# Altium footprint library Connector_Hirose.PcbLib: 136 footprints (part 2 of 9)
Each footprint in its own frame and in the unit in brackets; x right, y up, seen from the top. Pads: shape width x height; smd on the part's side, far side on the other; paste and mask are expansions set on the pad; w line width, h text height; cw(c..) or ccw(c..) is an arc to the next point about the centre after c.
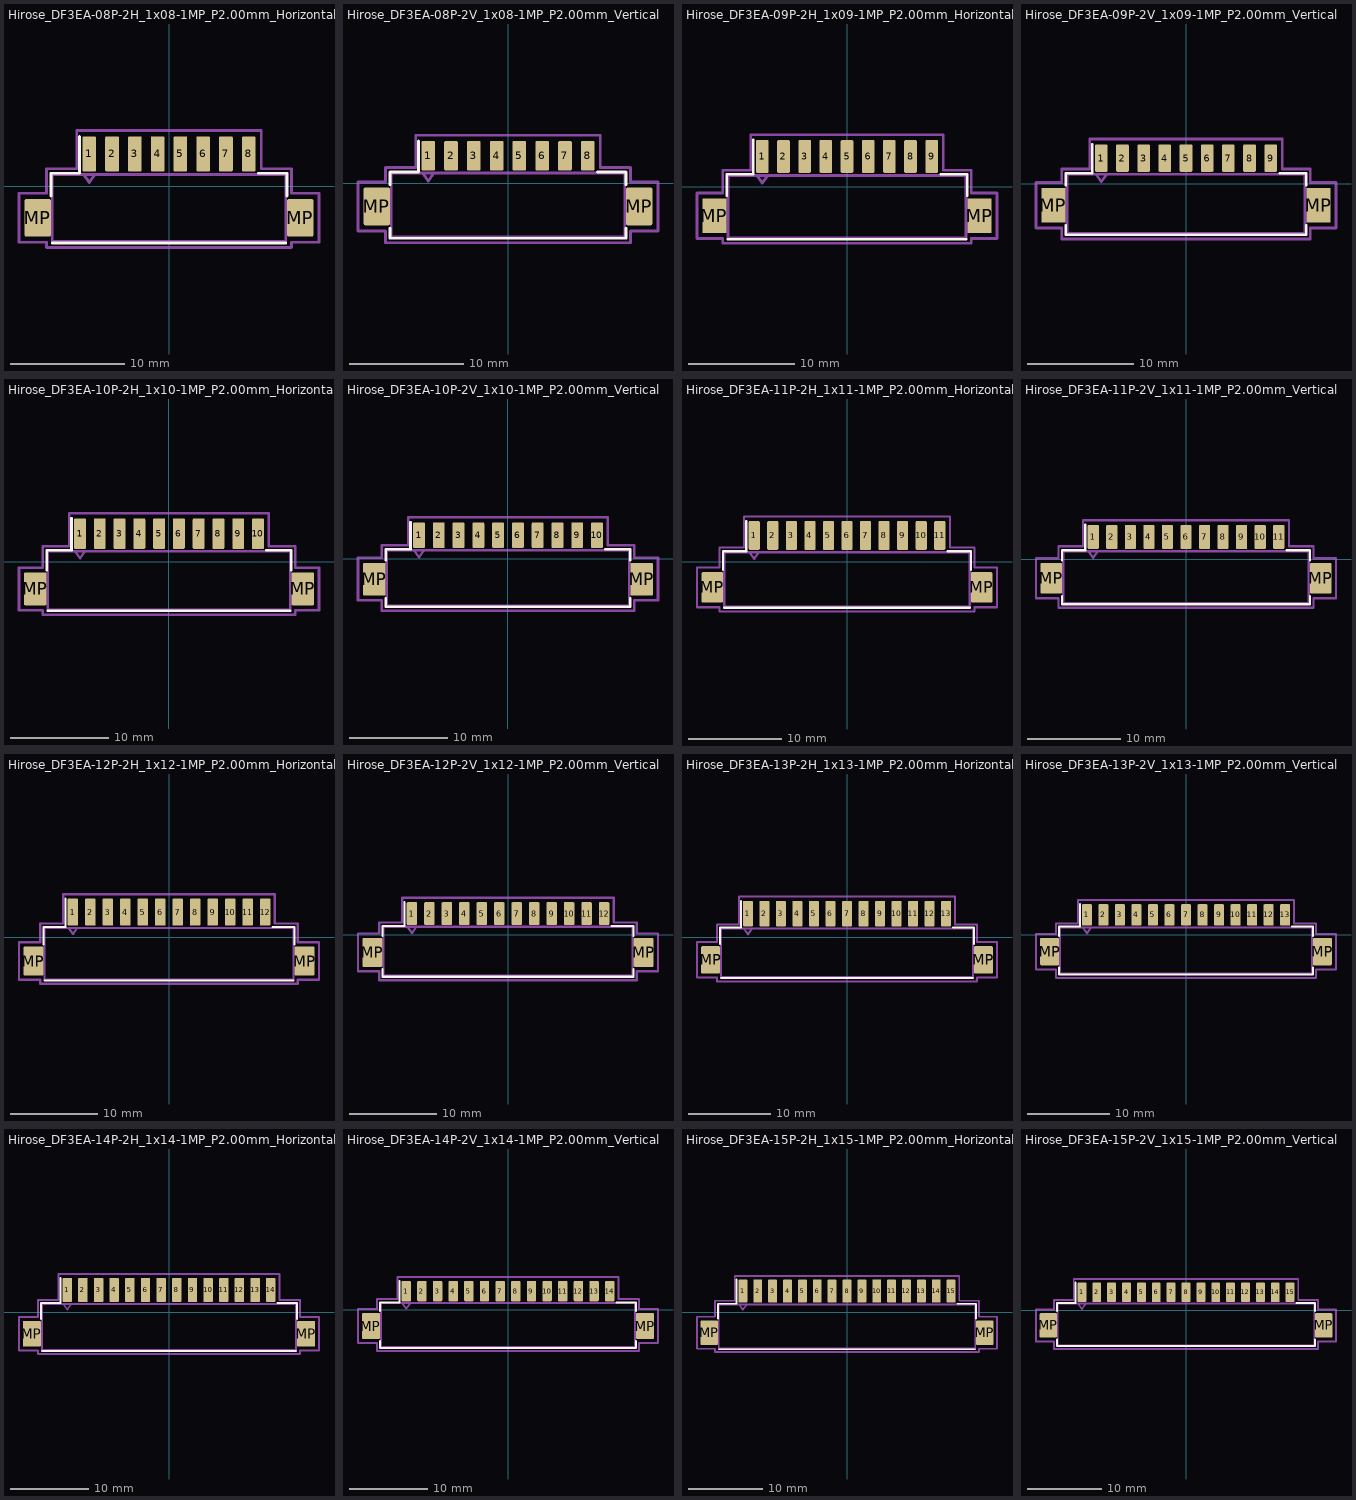
[diagram p1: the footprints below, top view; thin cyan lines are the x and y axes]

## Hirose_DF3EA-08P-2H_1x08-1MP_P2.00mm_Horizontal [mm]
pads (10):
  rrect21% 1.2x3.1 smd: 1(-7,2.85) 2(-5,2.85) 3(-3,2.85) 4(-1,2.85) 5(1,2.85) 6(3,2.85) 7(5,2.85) 8(7,2.85)
  rrect11% 2.3x3.3 smd: MP(-11.52,-2.75) MP(11.52,-2.75)
F.SilkS:
  lines w0.254: -10.36,-0.84 -10.36,1.16 -7.86,1.16 -7.86,4.4 ; -10.25,-4.96 10.25,-4.96 ; 7.86,1.16 10.36,1.16 10.36,-0.84
Top Assembly:
  lines w0.254: -7.5,1.05 -7,0.343 -6.5,1.05 ; -10.25,-4.85 10.25,-4.85 10.25,1.05 -10.25,1.05 -10.25,-4.85
  text "'.Designator'" at -4.047,-2.74 h1
Top Courtyard:
  lines w0.254: -13.17,-4.9 -10.75,-4.9 -10.75,-5.35 10.75,-5.35 10.75,-4.9 13.17,-4.9 13.17,-0.6 10.75,-0.6 10.75,1.55 8.1,1.55 8.1,4.9 -8.1,4.9 -8.1,1.55 -10.75,1.55 -10.75,-0.6 -13.17,-0.6 -13.17,-4.9
Top Designator:
  text ".Designator" at -7.618,-0.733 h1.52

## Hirose_DF3EA-08P-2V_1x08-1MP_P2.00mm_Vertical [mm]
pads (10):
  rrect21% 1.2x2.6 smd: 1(-7,2.4) 2(-5,2.4) 3(-3,2.4) 4(-1,2.4) 5(1,2.4) 6(3,2.4) 7(5,2.4) 8(7,2.4)
  rrect11% 2.3x3.3 smd: MP(-11.52,-2.05) MP(11.52,-2.05)
F.SilkS:
  lines w0.254: -10.36,-3.96 -10.36,-4.835 10.36,-4.835 10.36,-3.96 ; -10.36,-0.14 -10.36,0.985 -7.86,0.985 -7.86,3.7 ; 7.86,0.985 10.36,0.985 10.36,-0.14
Top Assembly:
  lines w0.254: -7.5,0.875 -7,0.168 -6.5,0.875 ; -10.25,-4.725 10.25,-4.725 10.25,0.875 -10.25,0.875 -10.25,-4.725
  text "'.Designator'" at -4.047,-2.76 h1
Top Courtyard:
  lines w0.254: -13.17,-4.2 -10.75,-4.2 -10.75,-5.23 10.75,-5.23 10.75,-4.2 13.17,-4.2 13.17,0.1 10.75,0.1 10.75,1.38 8.1,1.38 8.1,4.2 -8.1,4.2 -8.1,1.38 -10.75,1.38 -10.75,0.1 -13.17,0.1 -13.17,-4.2
Top Designator:
  text ".Designator" at -7.618,-1.023 h1.52

## Hirose_DF3EA-09P-2H_1x09-1MP_P2.00mm_Horizontal [mm]
pads (11):
  rrect21% 1.2x3.1 smd: 1(-8,2.85) 2(-6,2.85) 3(-4,2.85) 4(-2,2.85) 5(0,2.85) 6(2,2.85) 7(4,2.85) 8(6,2.85) 9(8,2.85)
  rrect11% 2.3x3.3 smd: MP(-12.52,-2.75) MP(12.52,-2.75)
F.SilkS:
  lines w0.254: -11.36,-0.84 -11.36,1.16 -8.86,1.16 -8.86,4.4 ; -11.25,-4.96 11.25,-4.96 ; 8.86,1.16 11.36,1.16 11.36,-0.84
Top Assembly:
  lines w0.254: -8.5,1.05 -8,0.343 -7.5,1.05 ; -11.25,-4.85 11.25,-4.85 11.25,1.05 -11.25,1.05 -11.25,-4.85
  text "'.Designator'" at -4.047,-2.74 h1
Top Courtyard:
  lines w0.254: -14.17,-4.9 -11.75,-4.9 -11.75,-5.35 11.75,-5.35 11.75,-4.9 14.17,-4.9 14.17,-0.6 11.75,-0.6 11.75,1.55 9.1,1.55 9.1,4.9 -9.1,4.9 -9.1,1.55 -11.75,1.55 -11.75,-0.6 -14.17,-0.6 -14.17,-4.9
Top Designator:
  text ".Designator" at -7.618,-0.733 h1.52

## Hirose_DF3EA-09P-2V_1x09-1MP_P2.00mm_Vertical [mm]
pads (11):
  rrect21% 1.2x2.6 smd: 1(-8,2.4) 2(-6,2.4) 3(-4,2.4) 4(-2,2.4) 5(0,2.4) 6(2,2.4) 7(4,2.4) 8(6,2.4) 9(8,2.4)
  rrect11% 2.3x3.3 smd: MP(-12.52,-2.05) MP(12.52,-2.05)
F.SilkS:
  lines w0.254: -11.36,-3.96 -11.36,-4.835 11.36,-4.835 11.36,-3.96 ; -11.36,-0.14 -11.36,0.985 -8.86,0.985 -8.86,3.7 ; 8.86,0.985 11.36,0.985 11.36,-0.14
Top Assembly:
  lines w0.254: -8.5,0.875 -8,0.168 -7.5,0.875 ; -11.25,-4.725 11.25,-4.725 11.25,0.875 -11.25,0.875 -11.25,-4.725
  text "'.Designator'" at -4.047,-2.76 h1
Top Courtyard:
  lines w0.254: -14.17,-4.2 -11.75,-4.2 -11.75,-5.23 11.75,-5.23 11.75,-4.2 14.17,-4.2 14.17,0.1 11.75,0.1 11.75,1.38 9.1,1.38 9.1,4.2 -9.1,4.2 -9.1,1.38 -11.75,1.38 -11.75,0.1 -14.17,0.1 -14.17,-4.2
Top Designator:
  text ".Designator" at -7.618,-1.023 h1.52

## Hirose_DF3EA-10P-2H_1x10-1MP_P2.00mm_Horizontal [mm]
pads (12):
  rrect21% 1.2x3.1 smd: 1(-9,2.85) 2(-7,2.85) 3(-5,2.85) 4(-3,2.85) 5(-1,2.85) 6(1,2.85) 7(3,2.85) 8(5,2.85) 9(7,2.85) 10(9,2.85)
  rrect11% 2.3x3.3 smd: MP(-13.52,-2.75) MP(13.52,-2.75)
F.SilkS:
  lines w0.254: -12.36,-0.84 -12.36,1.16 -9.86,1.16 -9.86,4.4 ; -12.25,-4.96 12.25,-4.96 ; 9.86,1.16 12.36,1.16 12.36,-0.84
Top Assembly:
  lines w0.254: -9.5,1.05 -9,0.343 -8.5,1.05 ; -12.25,-4.85 12.25,-4.85 12.25,1.05 -12.25,1.05 -12.25,-4.85
  text "'.Designator'" at -4.047,-2.74 h1
Top Courtyard:
  lines w0.254: -15.17,-4.9 -12.75,-4.9 -12.75,-5.35 12.75,-5.35 12.75,-4.9 15.17,-4.9 15.17,-0.6 12.75,-0.6 12.75,1.55 10.1,1.55 10.1,4.9 -10.1,4.9 -10.1,1.55 -12.75,1.55 -12.75,-0.6 -15.17,-0.6 -15.17,-4.9
Top Designator:
  text ".Designator" at -7.618,-0.733 h1.52

## Hirose_DF3EA-10P-2V_1x10-1MP_P2.00mm_Vertical [mm]
pads (12):
  rrect21% 1.2x2.6 smd: 1(-9,2.4) 2(-7,2.4) 3(-5,2.4) 4(-3,2.4) 5(-1,2.4) 6(1,2.4) 7(3,2.4) 8(5,2.4) 9(7,2.4) 10(9,2.4)
  rrect11% 2.3x3.3 smd: MP(-13.52,-2.05) MP(13.52,-2.05)
F.SilkS:
  lines w0.254: -12.36,-3.96 -12.36,-4.835 12.36,-4.835 12.36,-3.96 ; -12.36,-0.14 -12.36,0.985 -9.86,0.985 -9.86,3.7 ; 9.86,0.985 12.36,0.985 12.36,-0.14
Top Assembly:
  lines w0.254: -9.5,0.875 -9,0.168 -8.5,0.875 ; -12.25,-4.725 12.25,-4.725 12.25,0.875 -12.25,0.875 -12.25,-4.725
  text "'.Designator'" at -4.047,-2.76 h1
Top Courtyard:
  lines w0.254: -15.17,-4.2 -12.75,-4.2 -12.75,-5.23 12.75,-5.23 12.75,-4.2 15.17,-4.2 15.17,0.1 12.75,0.1 12.75,1.38 10.1,1.38 10.1,4.2 -10.1,4.2 -10.1,1.38 -12.75,1.38 -12.75,0.1 -15.17,0.1 -15.17,-4.2
Top Designator:
  text ".Designator" at -7.618,-1.023 h1.52

## Hirose_DF3EA-11P-2H_1x11-1MP_P2.00mm_Horizontal [mm]
pads (13):
  rrect21% 1.2x3.1 smd: 1(-10,2.85) 2(-8,2.85) 3(-6,2.85) 4(-4,2.85) 5(-2,2.85) 6(0,2.85) 7(2,2.85) 8(4,2.85) 9(6,2.85) 10(8,2.85) 11(10,2.85)
  rrect11% 2.3x3.3 smd: MP(-14.52,-2.75) MP(14.52,-2.75)
F.SilkS:
  lines w0.254: -13.36,-0.84 -13.36,1.16 -10.86,1.16 -10.86,4.4 ; -13.25,-4.96 13.25,-4.96 ; 10.86,1.16 13.36,1.16 13.36,-0.84
Top Assembly:
  lines w0.254: -10.5,1.05 -10,0.343 -9.5,1.05 ; -13.25,-4.85 13.25,-4.85 13.25,1.05 -13.25,1.05 -13.25,-4.85
  text "'.Designator'" at -4.047,-2.74 h1
Top Courtyard:
  lines w0.254: -16.17,-4.9 -13.75,-4.9 -13.75,-5.35 13.75,-5.35 13.75,-4.9 16.17,-4.9 16.17,-0.6 13.75,-0.6 13.75,1.55 11.1,1.55 11.1,4.9 -11.1,4.9 -11.1,1.55 -13.75,1.55 -13.75,-0.6 -16.17,-0.6 -16.17,-4.9
Top Designator:
  text ".Designator" at -7.618,-0.733 h1.52

## Hirose_DF3EA-11P-2V_1x11-1MP_P2.00mm_Vertical [mm]
pads (13):
  rrect21% 1.2x2.6 smd: 1(-10,2.4) 2(-8,2.4) 3(-6,2.4) 4(-4,2.4) 5(-2,2.4) 6(0,2.4) 7(2,2.4) 8(4,2.4) 9(6,2.4) 10(8,2.4) 11(10,2.4)
  rrect11% 2.3x3.3 smd: MP(-14.52,-2.05) MP(14.52,-2.05)
F.SilkS:
  lines w0.254: -13.36,-3.96 -13.36,-4.835 13.36,-4.835 13.36,-3.96 ; -13.36,-0.14 -13.36,0.985 -10.86,0.985 -10.86,3.7 ; 10.86,0.985 13.36,0.985 13.36,-0.14
Top Assembly:
  lines w0.254: -10.5,0.875 -10,0.168 -9.5,0.875 ; -13.25,-4.725 13.25,-4.725 13.25,0.875 -13.25,0.875 -13.25,-4.725
  text "'.Designator'" at -4.047,-2.76 h1
Top Courtyard:
  lines w0.254: -16.17,-4.2 -13.75,-4.2 -13.75,-5.23 13.75,-5.23 13.75,-4.2 16.17,-4.2 16.17,0.1 13.75,0.1 13.75,1.38 11.1,1.38 11.1,4.2 -11.1,4.2 -11.1,1.38 -13.75,1.38 -13.75,0.1 -16.17,0.1 -16.17,-4.2
Top Designator:
  text ".Designator" at -7.618,-1.023 h1.52

## Hirose_DF3EA-12P-2H_1x12-1MP_P2.00mm_Horizontal [mm]
pads (14):
  rrect21% 1.2x3.1 smd: 1(-11,2.85) 2(-9,2.85) 3(-7,2.85) 4(-5,2.85) 5(-3,2.85) 6(-1,2.85) 7(1,2.85) 8(3,2.85) 9(5,2.85) 10(7,2.85) 11(9,2.85) 12(11,2.85)
  rrect11% 2.3x3.3 smd: MP(-15.52,-2.75) MP(15.52,-2.75)
F.SilkS:
  lines w0.254: -14.36,-0.84 -14.36,1.16 -11.86,1.16 -11.86,4.4 ; -14.25,-4.96 14.25,-4.96 ; 11.86,1.16 14.36,1.16 14.36,-0.84
Top Assembly:
  lines w0.254: -11.5,1.05 -11,0.343 -10.5,1.05 ; -14.25,-4.85 14.25,-4.85 14.25,1.05 -14.25,1.05 -14.25,-4.85
  text "'.Designator'" at -4.047,-2.74 h1
Top Courtyard:
  lines w0.254: -17.17,-4.9 -14.75,-4.9 -14.75,-5.35 14.75,-5.35 14.75,-4.9 17.17,-4.9 17.17,-0.6 14.75,-0.6 14.75,1.55 12.1,1.55 12.1,4.9 -12.1,4.9 -12.1,1.55 -14.75,1.55 -14.75,-0.6 -17.17,-0.6 -17.17,-4.9
Top Designator:
  text ".Designator" at -7.618,-0.733 h1.52

## Hirose_DF3EA-12P-2V_1x12-1MP_P2.00mm_Vertical [mm]
pads (14):
  rrect21% 1.2x2.6 smd: 1(-11,2.4) 2(-9,2.4) 3(-7,2.4) 4(-5,2.4) 5(-3,2.4) 6(-1,2.4) 7(1,2.4) 8(3,2.4) 9(5,2.4) 10(7,2.4) 11(9,2.4) 12(11,2.4)
  rrect11% 2.3x3.3 smd: MP(-15.52,-2.05) MP(15.52,-2.05)
F.SilkS:
  lines w0.254: -14.36,-3.96 -14.36,-4.835 14.36,-4.835 14.36,-3.96 ; -14.36,-0.14 -14.36,0.985 -11.86,0.985 -11.86,3.7 ; 11.86,0.985 14.36,0.985 14.36,-0.14
Top Assembly:
  lines w0.254: -11.5,0.875 -11,0.168 -10.5,0.875 ; -14.25,-4.725 14.25,-4.725 14.25,0.875 -14.25,0.875 -14.25,-4.725
  text "'.Designator'" at -4.047,-2.76 h1
Top Courtyard:
  lines w0.254: -17.17,-4.2 -14.75,-4.2 -14.75,-5.23 14.75,-5.23 14.75,-4.2 17.17,-4.2 17.17,0.1 14.75,0.1 14.75,1.38 12.1,1.38 12.1,4.2 -12.1,4.2 -12.1,1.38 -14.75,1.38 -14.75,0.1 -17.17,0.1 -17.17,-4.2
Top Designator:
  text ".Designator" at -7.618,-1.023 h1.52

## Hirose_DF3EA-13P-2H_1x13-1MP_P2.00mm_Horizontal [mm]
pads (15):
  rrect21% 1.2x3.1 smd: 1(-12,2.85) 2(-10,2.85) 3(-8,2.85) 4(-6,2.85) 5(-4,2.85) 6(-2,2.85) 7(0,2.85) 8(2,2.85) 9(4,2.85) 10(6,2.85) 11(8,2.85) 12(10,2.85) 13(12,2.85)
  rrect11% 2.3x3.3 smd: MP(-16.52,-2.75) MP(16.52,-2.75)
F.SilkS:
  lines w0.254: -15.36,-0.84 -15.36,1.16 -12.86,1.16 -12.86,4.4 ; -15.25,-4.96 15.25,-4.96 ; 12.86,1.16 15.36,1.16 15.36,-0.84
Top Assembly:
  lines w0.254: -12.5,1.05 -12,0.343 -11.5,1.05 ; -15.25,-4.85 15.25,-4.85 15.25,1.05 -15.25,1.05 -15.25,-4.85
  text "'.Designator'" at -4.047,-2.74 h1
Top Courtyard:
  lines w0.254: -18.17,-4.9 -15.75,-4.9 -15.75,-5.35 15.75,-5.35 15.75,-4.9 18.17,-4.9 18.17,-0.6 15.75,-0.6 15.75,1.55 13.1,1.55 13.1,4.9 -13.1,4.9 -13.1,1.55 -15.75,1.55 -15.75,-0.6 -18.17,-0.6 -18.17,-4.9
Top Designator:
  text ".Designator" at -7.618,-0.733 h1.52

## Hirose_DF3EA-13P-2V_1x13-1MP_P2.00mm_Vertical [mm]
pads (15):
  rrect21% 1.2x2.6 smd: 1(-12,2.4) 2(-10,2.4) 3(-8,2.4) 4(-6,2.4) 5(-4,2.4) 6(-2,2.4) 7(0,2.4) 8(2,2.4) 9(4,2.4) 10(6,2.4) 11(8,2.4) 12(10,2.4) 13(12,2.4)
  rrect11% 2.3x3.3 smd: MP(-16.52,-2.05) MP(16.52,-2.05)
F.SilkS:
  lines w0.254: -15.36,-3.96 -15.36,-4.835 15.36,-4.835 15.36,-3.96 ; -15.36,-0.14 -15.36,0.985 -12.86,0.985 -12.86,3.7 ; 12.86,0.985 15.36,0.985 15.36,-0.14
Top Assembly:
  lines w0.254: -12.5,0.875 -12,0.168 -11.5,0.875 ; -15.25,-4.725 15.25,-4.725 15.25,0.875 -15.25,0.875 -15.25,-4.725
  text "'.Designator'" at -4.047,-2.76 h1
Top Courtyard:
  lines w0.254: -18.17,-4.2 -15.75,-4.2 -15.75,-5.23 15.75,-5.23 15.75,-4.2 18.17,-4.2 18.17,0.1 15.75,0.1 15.75,1.38 13.1,1.38 13.1,4.2 -13.1,4.2 -13.1,1.38 -15.75,1.38 -15.75,0.1 -18.17,0.1 -18.17,-4.2
Top Designator:
  text ".Designator" at -7.618,-1.023 h1.52

## Hirose_DF3EA-14P-2H_1x14-1MP_P2.00mm_Horizontal [mm]
pads (16):
  rrect21% 1.2x3.1 smd: 1(-13,2.85) 2(-11,2.85) 3(-9,2.85) 4(-7,2.85) 5(-5,2.85) 6(-3,2.85) 7(-1,2.85) 8(1,2.85) 9(3,2.85) 10(5,2.85) 11(7,2.85) 12(9,2.85) 13(11,2.85) 14(13,2.85)
  rrect11% 2.3x3.3 smd: MP(-17.52,-2.75) MP(17.52,-2.75)
F.SilkS:
  lines w0.254: -16.36,-0.84 -16.36,1.16 -13.86,1.16 -13.86,4.4 ; -16.25,-4.96 16.25,-4.96 ; 13.86,1.16 16.36,1.16 16.36,-0.84
Top Assembly:
  lines w0.254: -13.5,1.05 -13,0.343 -12.5,1.05 ; -16.25,-4.85 16.25,-4.85 16.25,1.05 -16.25,1.05 -16.25,-4.85
  text "'.Designator'" at -4.047,-2.74 h1
Top Courtyard:
  lines w0.254: -19.17,-4.9 -16.75,-4.9 -16.75,-5.35 16.75,-5.35 16.75,-4.9 19.17,-4.9 19.17,-0.6 16.75,-0.6 16.75,1.55 14.1,1.55 14.1,4.9 -14.1,4.9 -14.1,1.55 -16.75,1.55 -16.75,-0.6 -19.17,-0.6 -19.17,-4.9
Top Designator:
  text ".Designator" at -7.618,-0.733 h1.52

## Hirose_DF3EA-14P-2V_1x14-1MP_P2.00mm_Vertical [mm]
pads (16):
  rrect21% 1.2x2.6 smd: 1(-13,2.4) 2(-11,2.4) 3(-9,2.4) 4(-7,2.4) 5(-5,2.4) 6(-3,2.4) 7(-1,2.4) 8(1,2.4) 9(3,2.4) 10(5,2.4) 11(7,2.4) 12(9,2.4) 13(11,2.4) 14(13,2.4)
  rrect11% 2.3x3.3 smd: MP(-17.52,-2.05) MP(17.52,-2.05)
F.SilkS:
  lines w0.254: -16.36,-3.96 -16.36,-4.835 16.36,-4.835 16.36,-3.96 ; -16.36,-0.14 -16.36,0.985 -13.86,0.985 -13.86,3.7 ; 13.86,0.985 16.36,0.985 16.36,-0.14
Top Assembly:
  lines w0.254: -13.5,0.875 -13,0.168 -12.5,0.875 ; -16.25,-4.725 16.25,-4.725 16.25,0.875 -16.25,0.875 -16.25,-4.725
  text "'.Designator'" at -4.047,-2.76 h1
Top Courtyard:
  lines w0.254: -19.17,-4.2 -16.75,-4.2 -16.75,-5.23 16.75,-5.23 16.75,-4.2 19.17,-4.2 19.17,0.1 16.75,0.1 16.75,1.38 14.1,1.38 14.1,4.2 -14.1,4.2 -14.1,1.38 -16.75,1.38 -16.75,0.1 -19.17,0.1 -19.17,-4.2
Top Designator:
  text ".Designator" at -7.618,-1.023 h1.52

## Hirose_DF3EA-15P-2H_1x15-1MP_P2.00mm_Horizontal [mm]
pads (17):
  rrect21% 1.2x3.1 smd: 1(-14,2.85) 2(-12,2.85) 3(-10,2.85) 4(-8,2.85) 5(-6,2.85) 6(-4,2.85) 7(-2,2.85) 8(0,2.85) 9(2,2.85) 10(4,2.85) 11(6,2.85) 12(8,2.85) 13(10,2.85) 14(12,2.85) 15(14,2.85)
  rrect11% 2.3x3.3 smd: MP(-18.52,-2.75) MP(18.52,-2.75)
F.SilkS:
  lines w0.254: -17.36,-0.84 -17.36,1.16 -14.86,1.16 -14.86,4.4 ; -17.25,-4.96 17.25,-4.96 ; 14.86,1.16 17.36,1.16 17.36,-0.84
Top Assembly:
  lines w0.254: -14.5,1.05 -14,0.343 -13.5,1.05 ; -17.25,-4.85 17.25,-4.85 17.25,1.05 -17.25,1.05 -17.25,-4.85
  text "'.Designator'" at -4.047,-2.74 h1
Top Courtyard:
  lines w0.254: -20.17,-4.9 -17.75,-4.9 -17.75,-5.35 17.75,-5.35 17.75,-4.9 20.17,-4.9 20.17,-0.6 17.75,-0.6 17.75,1.55 15.1,1.55 15.1,4.9 -15.1,4.9 -15.1,1.55 -17.75,1.55 -17.75,-0.6 -20.17,-0.6 -20.17,-4.9
Top Designator:
  text ".Designator" at -7.618,-0.733 h1.52

## Hirose_DF3EA-15P-2V_1x15-1MP_P2.00mm_Vertical [mm]
pads (17):
  rrect21% 1.2x2.6 smd: 1(-14,2.4) 2(-12,2.4) 3(-10,2.4) 4(-8,2.4) 5(-6,2.4) 6(-4,2.4) 7(-2,2.4) 8(0,2.4) 9(2,2.4) 10(4,2.4) 11(6,2.4) 12(8,2.4) 13(10,2.4) 14(12,2.4) 15(14,2.4)
  rrect11% 2.3x3.3 smd: MP(-18.52,-2.05) MP(18.52,-2.05)
F.SilkS:
  lines w0.254: -17.36,-3.96 -17.36,-4.835 17.36,-4.835 17.36,-3.96 ; -17.36,-0.14 -17.36,0.985 -14.86,0.985 -14.86,3.7 ; 14.86,0.985 17.36,0.985 17.36,-0.14
Top Assembly:
  lines w0.254: -14.5,0.875 -14,0.168 -13.5,0.875 ; -17.25,-4.725 17.25,-4.725 17.25,0.875 -17.25,0.875 -17.25,-4.725
  text "'.Designator'" at -4.047,-2.76 h1
Top Courtyard:
  lines w0.254: -20.17,-4.2 -17.75,-4.2 -17.75,-5.23 17.75,-5.23 17.75,-4.2 20.17,-4.2 20.17,0.1 17.75,0.1 17.75,1.38 15.1,1.38 15.1,4.2 -15.1,4.2 -15.1,1.38 -17.75,1.38 -17.75,0.1 -20.17,0.1 -20.17,-4.2
Top Designator:
  text ".Designator" at -7.618,-1.023 h1.52